# EAGLE library part 20-HEAD (library Micro2)
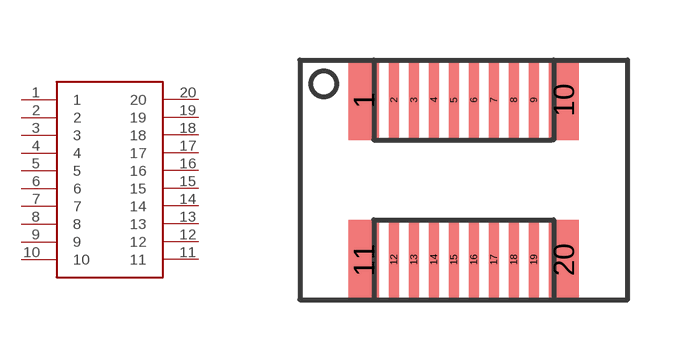
[diagram p18: symbol with the pads of 20-HEAD; footprint 20-HEAD]

Designator prefix -

## 20-HEAD  [20-HEAD]
1  1
2  2
3  3
4  4
5  5
6  6
7  7
8  8
9  9
10  10
11  11
12  12
13  13
14  14
15  15
16  16
17  17
18  18
19  19
20  20

## Footprint 20-HEAD (pad centres in mm)
smd 0.75 x 2: 1 -2.5,2; 10 2.5,2; 11 -2.5,-2; 20 2.5,-2
smd 0.25 x 2: 2 -1.75,2; 3 -1.25,2; 4 -0.75,2; 5 -0.25,2; 6 0.25,2; 7 0.75,2; 8 1.25,2; 9 1.75,2; 12 -1.75,-2; 13 -1.25,-2; 14 -0.75,-2; 15 -0.25,-2; 16 0.25,-2; 17 0.75,-2; 18 1.25,-2; 19 1.75,-2